# Altium footprint library mypcblib.PcbLib: 128 footprints (part 6 of 8)
Each footprint in its own frame and in the unit in brackets; x right, y up, seen from the top. Pads: shape width x height; smd on the part's side, far side on the other; paste and mask are expansions set on the pad; w line width, h text height; cw(c..) or ccw(c..) is an arc to the next point about the centre after c.
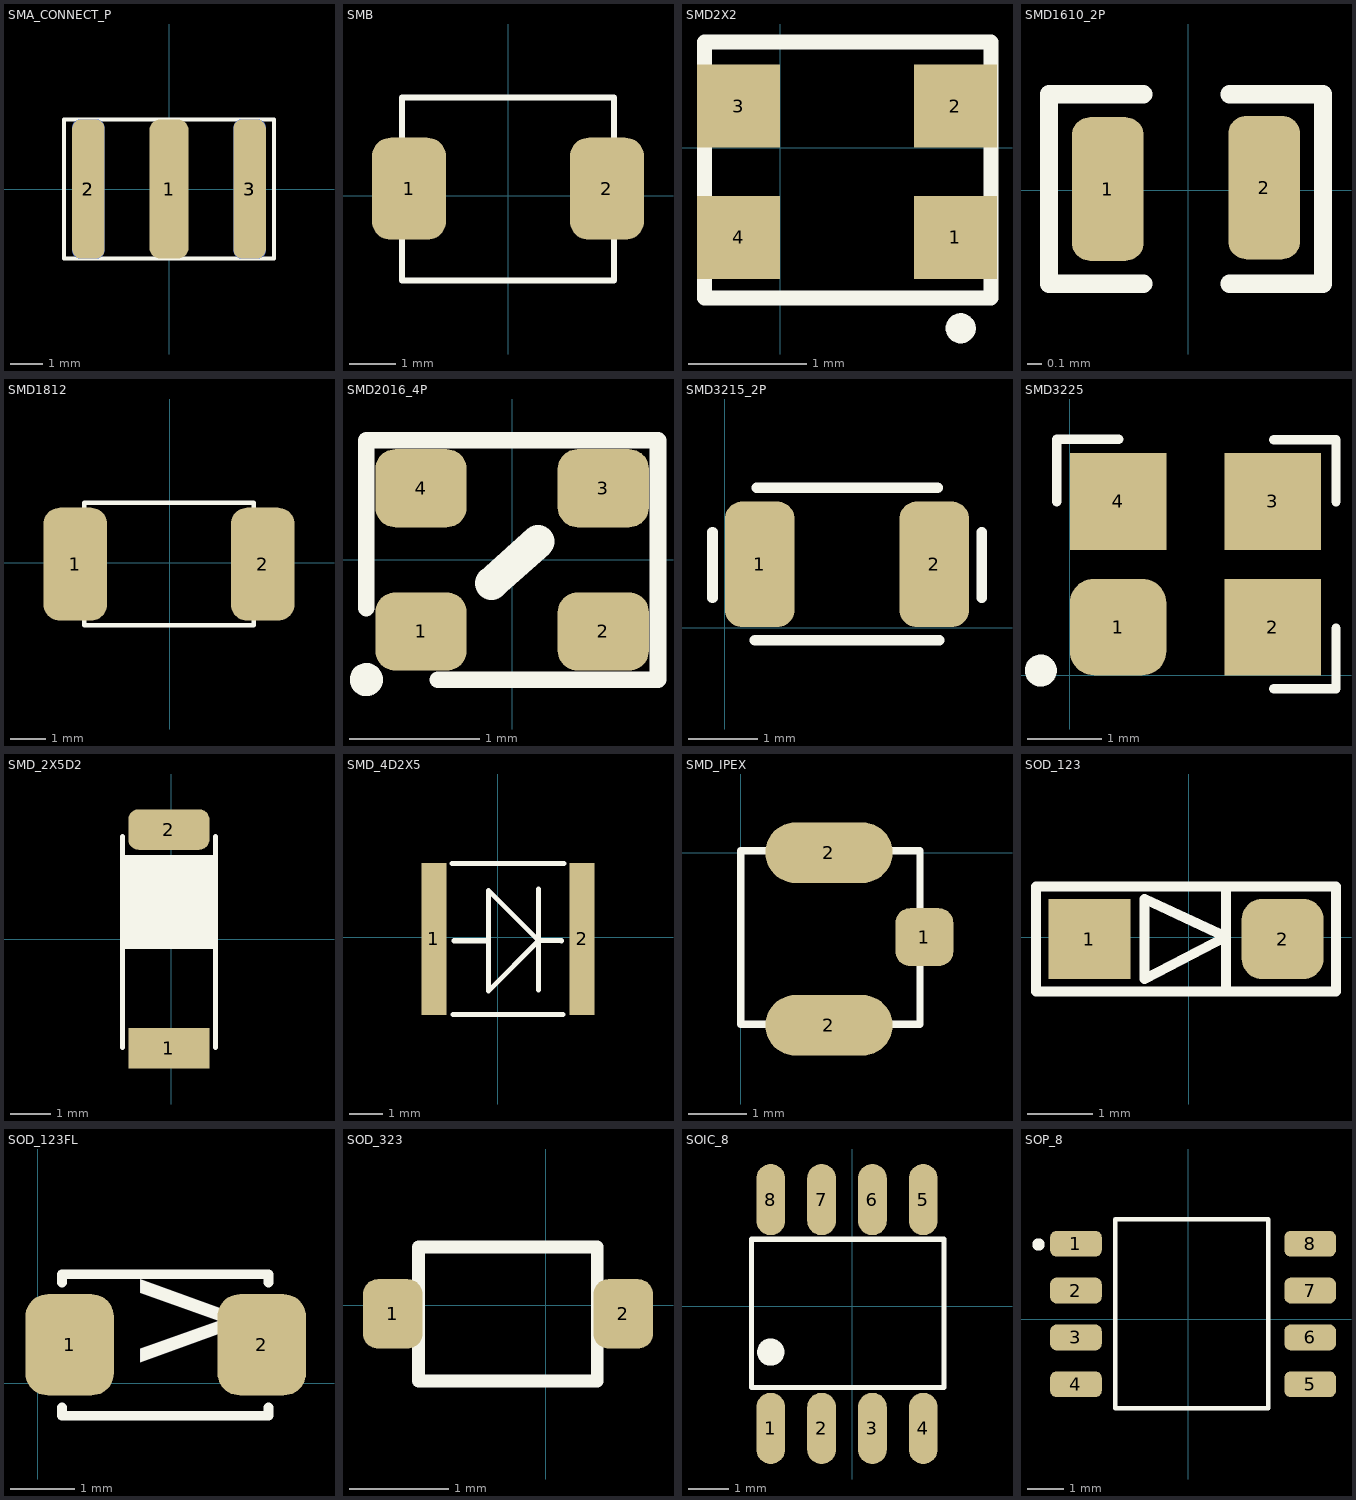
[diagram p5: the footprints below, top view; thin cyan lines are the x and y axes]

## SMA_CONNECT_P [mm]
pads (5):
  rrect50% 1.2x4.3 smd: 1(0,0)
  rrect50% 1x4.3 smd: 2(-2.5,0) 3(2.5,0)
  rrect50% 1x4.3 smd far side: 2(-2.5,0) 3(2.5,0)
Top Overlay:
  lines w0.127: -3.25,-2.15 -3.25,2.15 3.25,2.15 3.25,-2.15 -3.25,-2.15
Bottom Overlay:
  lines w0.127: -3.25,-2.15 -3.25,2.15 3.25,2.15 3.25,-2.15 -3.25,-2.15

## SMB [mm]
pads (2):
  rrect50% 1.6x2.2 smd: 1(-2.14,0.15) 2(2.13,0.15)
Top Overlay:
  lines w0.127: -2.288,-1.826 -2.288,2.114 2.282,2.114 2.282,-1.826 -2.288,-1.826
3D body "User Library-DO-214AA SMB.STEP": height 2.3, standoff 0, extent -2.69,-1.66 2.71,1.94

## SMD2X2 [mm]
pads (4):
  rect 0.7x0.7 smd: 1(1.48,-0.758) 2(1.48,0.35) 3(-0.35,0.35) 4(-0.35,-0.758)
Top Overlay:
  circle w0.127: c1.524,-1.524 r0.064
  lines w0.127: -0.635,-1.27 -0.635,0.889 1.778,0.889 1.778,-1.27 -0.635,-1.27

## SMD1610_2P [mm]
pads (2):
  rrect50% 0.5x1 smd: 1(-0.56,0.01) 2(0.53,0.02)
Top Overlay:
  lines w0.127: -0.313,-0.65 -0.97,-0.65 -0.97,0.67 -0.313,0.67 ; 0.287,-0.65 0.94,-0.65 0.94,0.67 0.287,0.67

## SMD1812 [mm]
pads (2):
  rrect50% 1.78x3.15 smd: 1(-2.64,-0.04) 2(2.59,-0.04)
Top Overlay:
  lines w0.127: -2.39,-1.742 2.34,-1.742 2.34,1.668 -2.39,1.668 -2.39,-1.742

## SMD2016_4P [mm]
pads (4):
  rrect50% 0.7x0.6 smd: 1(-0.7,-0.55) 2(0.7,-0.55) 3(0.7,0.55) 4(-0.7,0.55)
Top Overlay:
  circle w0.127: c-1.12,-0.92 r0.064
  lines w0.127: -1.12,-0.37 -1.12,0.92 1.12,0.92 1.12,-0.92 -0.57,-0.92
  lines w0.254: -0.16,-0.18 0.2,0.14

## SMD3215_2P [mm]
pads (2):
  rrect50% 1x1.8 smd: 1(0.5,0.91) 2(3,0.91)
Top Overlay:
  lines w0.152: -0.178,0.432 -0.178,1.372 ; 0.432,-0.178 3.073,-0.178 ; 0.457,2.007 3.048,2.007 ; 3.683,0.432 3.683,1.372

## SMD3225 [mm]
pads (4):
  rrect50% 1.3x1.3 smd: 1(0.65,0.65)
  rect 1.3x1.3 smd: 2(2.73,0.65) 3(2.73,2.34) 4(0.65,2.34)
Top Overlay:
  circle w0.3: c-0.39,0.065 r0.065
  lines w0.127: -0.178,2.337 -0.178,3.175 0.66,3.175 ; 2.743,-0.178 3.581,-0.178 3.581,0.635 ; 2.743,3.171 3.581,3.171 3.581,2.337

## SMD_2X5D2 [mm] "RFANT5220110A2T"
pads (2):
  rect 2x1 smd: 1(-0.054,-2.688)
  rrect50% 2x1 smd: 2(-0.054,2.712)
Top Overlay:
  lines w0.127: -1.194,-2.662 -1.194,2.538 ; 1.092,-2.662 1.092,2.538
  lines w0.152: -1.143,-0.152 1.041,-0.152 ; -1.143,-0.025 1.041,-0.025 ; -1.143,0.102 1.041,0.102 ; -1.143,0.229 1.041,0.229 ; -1.143,0.356 1.041,0.356 ; -1.143,0.483 1.041,0.483 ; -1.143,0.61 1.041,0.61 ; -1.143,0.737 1.041,0.737 ; -1.143,0.864 1.041,0.864 ; -1.143,0.991 1.041,0.991 ; -1.143,1.118 1.041,1.118 ; -1.143,1.245 1.041,1.245 ; -1.143,1.372 1.041,1.372 ; -1.143,1.499 1.041,1.499 ; -1.143,1.626 1.041,1.626 ; -1.143,1.753 1.041,1.753 ; -1.143,1.88 1.041,1.88 ; -1.118,2.007 1.067,2.007

## SMD_4D2X5 [mm]
pads (2):
  rect 0.75x4.55 smd: 1(-1.924,-0.049) 2(2.526,-0.049)
Top Overlay:
  lines w0.152: -1.372,2.21 1.981,2.21 ; -1.346,-2.311 1.956,-2.311 ; -1.321,-0.102 -0.279,-0.102 ; 1.219,-1.575 1.219,1.448 ; 1.219,-0.103 -0.279,-1.602 -0.279,1.398 1.221,-0.102 ; 1.219,-0.1 1.905,-0.102

## SMD_IPEX [mm]
pads (3):
  rrect50% 1x1 smd: 1(3.175,-1.46)
  oval 2.2x1.05 smd: 2(1.524,-2.984) 2(1.524,0)
Top Overlay:
  lines w0.127: -0.001,-2.967 -0.001,0.033 3.099,0.033 3.099,-2.967 -0.001,-2.967

## SOD_123 [mm]
pads (2):
  rect 1.25x1.22 smd: 1(-1.515,-0.03)
  rrect50% 1.25x1.22 smd: 2(1.435,-0.03)
Top Overlay:
  lines w0.152: 0.57,-0.81 0.57,0.76 ; -2.33,-0.83 -2.33,0.77 2.25,0.77 2.25,-0.83 -2.33,-0.83 ; -0.67,-0.64 0.57,0.005 -0.67,0.58 -0.67,-0.64

## SOD_123FL [mm]
pads (2):
  rrect50% 1.381x1.581 smd: 1(0.5,0.6) 2(3.5,0.6)
Top Overlay:
  lines w0.152: 0.381,-0.381 0.381,-0.508 3.607,-0.508 3.607,-0.381 ; 0.381,1.575 0.381,1.702 3.607,1.702 3.607,1.575
  text ">" at 1.346,-0.378 h3.05

## SOD_323 [mm]
pads (2):
  rrect50% 0.6x0.7 smd: 1(-1.54,-0.09) 2(0.78,-0.09)
Top Overlay:
  lines w0.127: -1.282,-0.766 0.519,-0.766 0.519,0.584 -1.282,0.584 -1.282,-0.766

## SOIC_8 [mm]
pads (8):
  oval 0.72x1.78 smd: 1(-2.032,-3.048) 2(-0.762,-3.048) 3(0.508,-3.048) 4(1.778,-3.048) 5(1.778,2.667) 6(0.508,2.667) 7(-0.762,2.667) 8(-2.032,2.667)
Top Overlay:
  circle w0.5: c-2.032,-1.143 r0.09
  lines w0.127: -2.515,-2.024 2.295,-2.024 2.295,1.676 -2.515,1.676 -2.515,-2.024
3D body "SOIC-8-1.STEP": height 1.75, standoff 0, extent -2.58,-3.2 2.32,2.8

## SOP_8 [mm]
pads (8):
  rrect50% 1.4x0.7 smd: 1(-3.048,2.052) 2(-3.048,0.782) 3(-3.048,-0.488) 4(-3.048,-1.758) 5(3.302,-1.758) 6(3.302,-0.488) 7(3.302,0.782) 8(3.302,2.052)
Top Overlay:
  circle w0.2: c-4.064,2.032 r0.067
  lines w0.127: -1.983,-2.077 -1.983,-1.427 ; -1.983,-0.807 -1.983,-0.157 ; -1.983,0.463 -1.983,1.113 ; -1.983,1.733 -1.983,2.383 ; 2.167,-1.427 2.167,-2.077 2.167,-0.807 2.167,-0.157 ; 2.167,0.463 2.167,1.113 ; 2.167,1.733 2.167,2.383 ; -1.983,-2.407 -1.983,2.713 2.167,2.713 2.167,-2.407 -1.983,-2.407